# EAGLE library part MCP48X1 (library xess)
Microchip MCP4801/4811/4821 DAC Microchip MCP4801/4811/4821 DAC
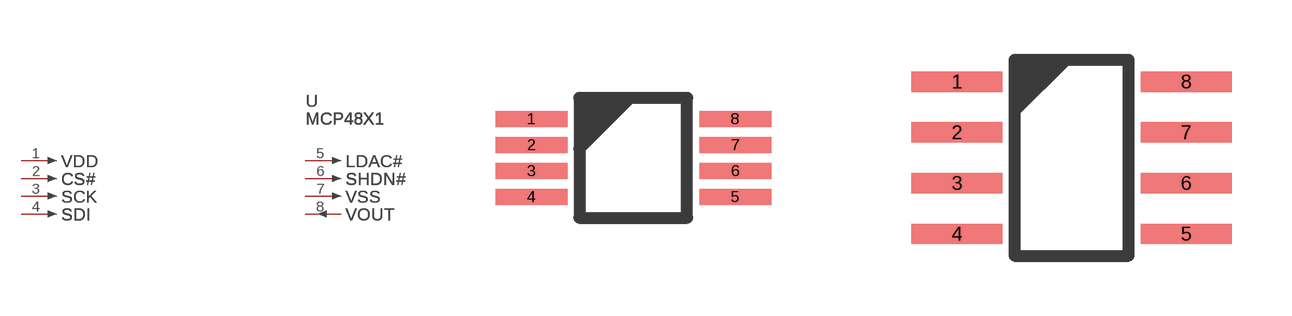
[diagram p155: symbol with the pads of MICROCHIP-8_MSOP; footprints MICROCHIP-8_MSOP, MICROCHIP-8_SOIC]

Designator prefix U; gates PART=PV_GATE VDD=PIN_GATE_IN CS#=PIN_GATE_IN SCK=PIN_GATE_IN SDI=PIN_GATE_IN LDAC#=PIN_GATE_IN SHDN#=PIN_GATE_IN VSS=PIN_GATE_IN VOUT=PIN_GATE_OUT

## MCP48X1-MSOP8  [MICROCHIP-8_MSOP]
1  VDD:1  in
2  CS#:1  in
3  SCK:1  in
4  SDI:1  in
5  LDAC#:1  in
6  SHDN#:1  in
7  VSS:1  in
8  VOUT:1  out

## MCP48X1-SOIC8  [MICROCHIP-8_SOIC]
Pads as for MICROCHIP-8_MSOP

## Footprint MICROCHIP-8_MSOP (pad centres in mm)
Microchip 8-Lead Plastic Small Outline Package
smd 1.8 x 0.4: 1 -0.5,0; 2 -0.5,-0.65; 3 -0.5,-1.3; 4 -0.5,-1.95; 5 4.6,-1.95; 6 4.6,-1.3; 7 4.6,-0.65; 8 4.6,0

## Footprint MICROCHIP-8_SOIC (pad centres in mm)
Microchip 8-Lead Plastic Small Outline Package
smd 2.27 x 0.51: 1 -0.5,0; 2 -0.5,-1.27; 3 -0.5,-2.54; 4 -0.5,-3.81; 5 5.23,-3.81; 6 5.23,-2.54; 7 5.23,-1.27; 8 5.23,0